# EAGLE library part UCLAMP3304A (library UCLAMP3304A)
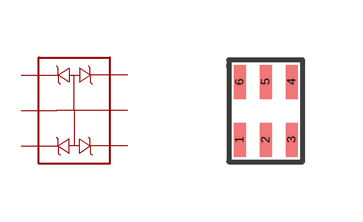
[diagram p0: symbol with the pads of UCLAMP3304A; footprint UCLAMP3304A]

Designator prefix -

## UCLAMP3304A  [UCLAMP3304A]
1  P$1
2  P$2
3  P$3
4  P$4
5  P$5
6  P$6

## Footprint UCLAMP3304A (pad centres in mm)
smd 0.3 x 0.85: 1 0,-1.025; 2 0.65,-1.025; 3 1.3,-1.025; 4 1.3,0.425; 5 0.65,0.425; 6 0,0.425